# Altium footprint library Diode.PcbLib: 33 footprints (part 2 of 3)
Each footprint in its own frame and in the unit in brackets; x right, y up, seen from the top. Pads: shape width x height; smd on the part's side, far side on the other; paste and mask are expansions set on the pad; w line width, h text height; cw(c..) or ccw(c..) is an arc to the next point about the centre after c.
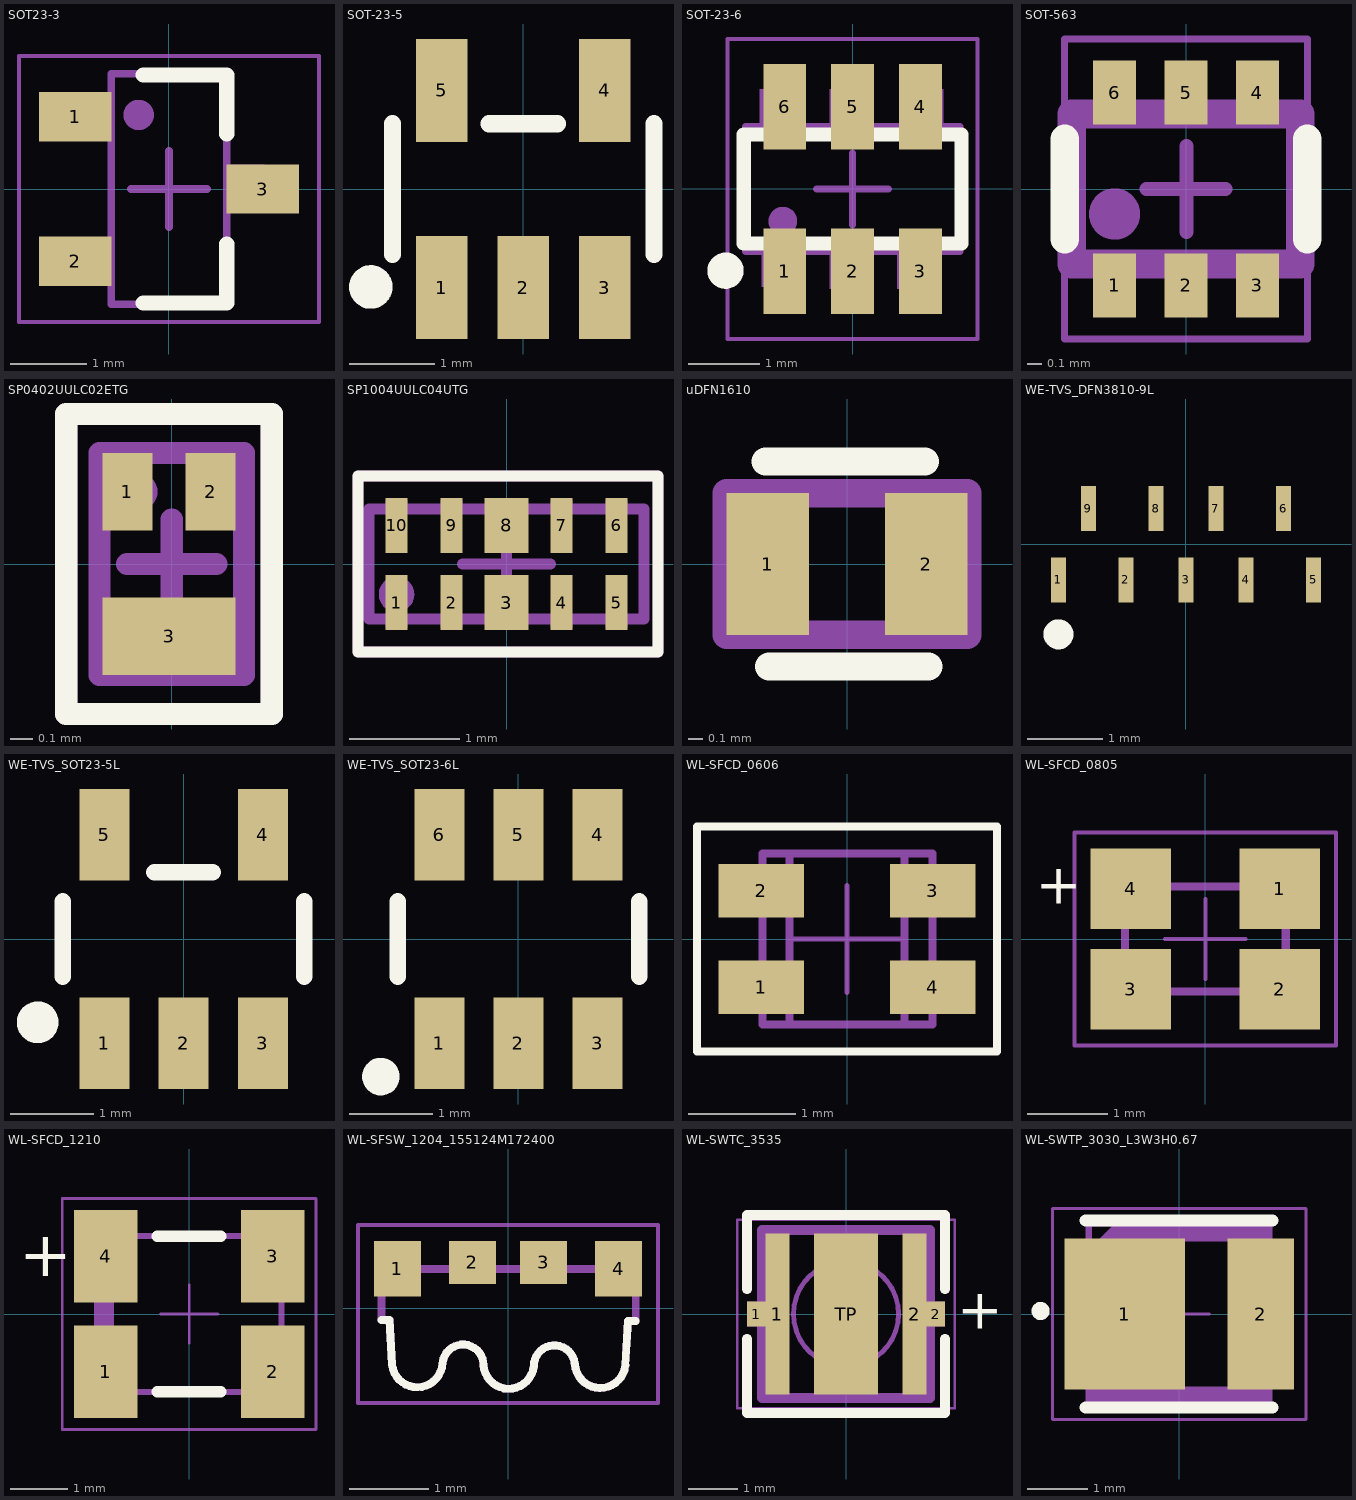
[diagram p1: the footprints below, top view; thin cyan lines are the x and y axes]

## SOT23-3 [mm] "SOT23, 3-Leads, Body 2.92x2.51mm, Pitch 0.95mm, IPC Medium Density"
height 1.12
pads (3):
  rect 0.95x0.65 smd: 1(-1.235,0.95) 2(-1.235,-0.95) 3(1.235,0)
Top Overlay:
  lines w0.2: -0.34,-1.5 0.76,-1.5 0.76,-0.725 ; -0.34,1.5 0.76,1.5 0.76,0.725
Mechanical 13:
  circle w0.3: c-0.4,0.975 r0.05
  rectangle: 0.76,-0.3 1.26,0.325
  rectangle: -1.26,-1.275 -0.76,-0.65
  rectangle: -1.26,0.65 -0.76,1.275
  lines w0.1: -0.76,-1.52 -0.76,1.52 0.76,1.52 0.76,-1.52 -0.76,-1.52
  text ".Designator" at -0.108,1.2 h0.65
Mechanical 15:
  lines w0.05: -1.975,-1.75 -1.975,1.75 1.975,1.75 1.975,-1.75 -1.975,-1.75
  lines w0.1: -0.5,0 0.5,0 ; 0,-0.5 0,0.5
3D body "SOT-23.step": height 1.11, standoff 0.01, extent -1.283,-1.5 1.217,1.5

## SOT-23-5 [mm]
pads (5):
  rect 0.6x1.2 smd: 1(-0.95,-1.15) 2(0,-1.15) 3(0.95,-1.15) 4(0.95,1.15) 5(-0.95,1.15)
Top Overlay:
  circle w0.254: c-1.778,-1.143 r0.127
  lines w0.2: -1.524,-0.762 -1.524,0.762 ; -0.4,0.762 0.4,0.761 ; 1.524,-0.762 1.524,0.762
3D body "SOT-23-5.step": height 1.11, standoff 0.01, extent -1.5,-1.25 1.5,1.25

## SOT-23-6 [mm]
pads (6):
  rect 0.6x1.2 smd: 1(-0.95,-1.15) 2(0,-1.15) 3(0.95,-1.15) 4(0.95,1.15) 5(0,1.15) 6(-0.95,1.15)
Top Overlay:
  circle w0.254: c-1.778,-1.143 r0.127
  lines w0.2: -1.524,-0.762 -1.524,0.762 1.524,0.762 1.524,-0.762 -1.524,-0.762
Mechanical 13:
  circle w0.3: c-0.975,-0.45 r0.05
  region: 1.275,0.9 1.275,1.4 0.65,1.4 0.65,0.9
  region: 0.3,0.9 0.3,1.4 -0.325,1.4 -0.325,0.9
  region: -0.675,0.9 -0.675,1.4 -1.3,1.4 -1.3,0.9
  region: 1.25,-1.4 1.25,-0.9 0.625,-0.9 0.625,-1.4
  region: 0.3,-1.4 0.3,-0.9 -0.325,-0.9 -0.325,-1.4
  region: -0.65,-1.375 -0.65,-0.875 -1.275,-0.875 -1.275,-1.375
  lines w0.1: -1.5,-0.875 -1.5,0.875 1.5,0.875 1.5,-0.875 -1.5,-0.875
  text ".Designator" at -1.999,-0.133 h0.4
Mechanical 15:
  lines w0.05: -1.75,-2.1 -1.75,2.1 1.75,2.1 1.75,-2.1 -1.75,-2.1
  lines w0.1: -0.5,0 0.5,0 ; 0,-0.5 0,0.5
3D body "SOT23-6-2.step": height 1.45, standoff 0, extent -1.45,-1.4 1.45,1.4

## SOT-563 [mm]
pads (6):
  rect 0.3x0.45 smd: 1(-0.5,-0.675) 2(0,-0.675) 3(0.5,-0.675) 4(0.5,0.675) 5(0,0.675) 6(-0.5,0.675)
Top Overlay:
  lines w0.2: -0.85,-0.35 -0.85,0.35 ; 0.85,-0.35 0.85,0.35
Mechanical 13:
  circle w0.2: c-0.5,-0.175 r0.079
  rectangle: -0.625,-0.8 -0.375,-0.55
  rectangle: -0.125,-0.8 0.125,-0.55
  rectangle: 0.375,-0.8 0.625,-0.55
  region: -0.375,0.8 -0.625,0.8 -0.625,0.55 -0.375,0.55
  region: 0.125,0.8 -0.125,0.8 -0.125,0.55 0.125,0.55
  region: 0.625,0.8 0.375,0.8 0.375,0.55 0.625,0.55
  lines w0.2: -0.8,-0.525 0.8,-0.525 0.8,0.525 -0.8,0.525 -0.8,-0.525
  text ".Designator" at -1.25,-0.083 h0.25
Mechanical 15:
  lines w0.05: -0.85,-1.05 0.85,-1.05 0.85,1.05 -0.85,1.05 -0.85,-1.05
  lines w0.1: -0.277,0 0.277,0 ; 0.003,-0.3 0.003,0.3
3D body "SOT-563.stp": height 0.61, standoff 0.01, extent -0.8,-0.8 0.8,0.8

## SP0402UULC02ETG [mm]
pads (3):
  rect 0.225x0.35 smd: 1(-0.2,0.325) 2(0.175,0.325)
  rect 0.6x0.35 smd: 3(-0.012,-0.325)
Top Overlay:
  lines w0.1: -0.475,-0.675 0.45,-0.675 0.45,0.675 -0.475,0.675 -0.475,-0.675
Mechanical 13:
  circle w0.1: c-0.15,0.325 r0.035
  lines w0.1: -0.325,-0.5 0.325,-0.5 0.325,0.5 -0.325,0.5 -0.325,-0.5
  text ".Designator" at 0.083,-1.25 h0.25
Mechanical 15:
  lines w0.1: -0.2,0 0.2,0 ; 0,-0.2 0,0.2 ; -0.475,-0.675 0.45,-0.675 0.45,0.675 -0.475,0.675 -0.475,-0.675
3D body "SP0402UULC02ETG v1.step": height 0.56, standoff 0.01, extent -0.3,-0.5 0.3,0.5

## SP1004UULC04UTG [mm]
pads (10):
  rect 0.2x0.5 smd: 1(-1,-0.35) 2(-0.5,-0.35) 4(0.5,-0.35) 5(1,-0.35) 6(1,0.35) 7(0.5,0.35) 9(-0.5,0.35) 10(-1,0.35)
  rect 0.4x0.5 smd: 3(0,-0.35) 8(0,0.35)
Top Overlay:
  lines w0.1: -1.35,-0.8 1.375,-0.8 1.375,0.8 -1.35,0.8 -1.35,-0.8
Mechanical 13:
  circle w0.1: c-1,-0.275 r0.112
  rectangle: -1.1,-0.575 -0.9,-0.525
  rectangle: -0.6,-0.575 -0.4,-0.525
  rectangle: -0.1,-0.575 0.1,-0.525
  rectangle: 0.4,-0.575 0.6,-0.525
  rectangle: 0.4,-0.575 0.6,-0.525
  rectangle: 0.9,-0.575 1.1,-0.525
  region: 1.1,0.575 0.9,0.575 0.9,0.525 1.1,0.525
  region: 0.6,0.575 0.4,0.575 0.4,0.525 0.6,0.525
  region: 0.1,0.575 -0.1,0.575 -0.1,0.525 0.1,0.525
  region: -0.4,0.575 -0.6,0.575 -0.6,0.525 -0.4,0.525
  region: -0.9,0.575 -1.1,0.575 -1.1,0.525 -0.9,0.525
  lines w0.1: -1.25,-0.5 1.25,-0.5 1.25,0.5 -1.25,0.5 -1.25,-0.5
  text ".Designator" at -1.999,-0.133 h0.4
Mechanical 15:
  lines w0.1: -0.4,0 0.4,0 ; 0,-0.4 0,0.4 ; -1.35,-0.8 1.375,-0.8 1.375,0.8 -1.35,0.8 -1.35,-0.8
3D body "SP1004U-ULC-04UTG v6.step": height 0.62, standoff -0.01, extent -1.25,-0.52 1.25,0.52

## uDFN1610 [mm]
pads (2):
  rect 0.58x1 smd: 1(-0.56,0) 2(0.56,0)
Top Overlay:
  lines w0.2: -0.575,0.725 0.55,0.725 ; -0.55,-0.725 0.575,-0.725
Mechanical 13:
  rectangle: 0.268,-0.5 0.85,0.5
  lines w0.2: -0.85,-0.5 0.85,-0.5 0.85,0.5 -0.85,0.5 -0.85,-0.5
  text ".Designator" at -1.999,0.867 h0.4
3D body "UDFN1610.step": height 0.58, standoff 0.01, extent -0.8,-0.5 0.8,0.5

## WE-TVS_DFN3810-9L [mm] "TVS Diode, package DFN3810-9L"
height 0.55
pads (9):
  rect 0.2x0.6 smd: 1(-1.7,-0.475) 2(-0.8,-0.475) 3(0,-0.475) 4(0.8,-0.475) 5(1.7,-0.475) 6(1.3,0.475) 7(0.4,0.475) 8(-0.4,0.475) 9(-1.3,0.475)
Top Overlay:
  circle w0.2: c-1.7,-1.2 r0.1
3D body "STEP-WE-TVS-DFN3810-9L-rev1.stp": height 0.5, standoff 0, extent -1.9,-0.5 1.9,0.5

## WE-TVS_SOT23-5L [mm] "TVS Diode, package SOT23-5L"
height 1.2
pads (5):
  rect 0.6x1.1 smd: 1(-0.95,-1.25) 2(0,-1.25) 3(0.95,-1.25) 4(0.95,1.25) 5(-0.95,1.25)
Top Overlay:
  circle w0.3: c-1.75,-1 r0.1
  lines w0.2: -1.45,-0.45 -1.45,0.45 ; -0.35,0.8 0.35,0.8 ; 1.45,-0.45 1.45,0.45
3D body "STEP-WE-TVS-HS-SOT23-5L-rev1.stp": height 1.16, standoff 0, extent -1.45,-1.4 1.45,1.4

## WE-TVS_SOT23-6L [mm] "TVS Diode, package SOT23-6L"
height 1.2
pads (6):
  rect 0.6x1.1 smd: 1(-0.95,-1.25) 2(0,-1.25) 3(0.95,-1.25) 4(0.95,1.25) 5(0,1.25) 6(-0.95,1.25)
Top Overlay:
  circle w0.25: c-1.651,-1.651 r0.1
  lines w0.2: -1.45,-0.45 -1.45,0.45 ; 1.45,-0.45 1.45,0.45
3D body "STEP-WE-TVS-SS-SOT23-6L-rev1.stp": height 1.16, standoff 0, extent -1.45,-1.4 1.45,1.4

## WL-SFCD_0606 [mm] "SMD Full-color Chip LED Diffused, body 1.6x1.6mm"
height 0.4
pads (4):
  rect 0.8x0.5 smd: 1(-0.8,-0.45) 2(-0.8,0.45) 3(0.8,0.45) 4(0.8,-0.45)
Top Overlay:
  lines w0.075: -1.4,-1.05 1.4,-1.05 1.4,1.05 -1.4,1.05 -1.4,-1.05
Mechanical 13:
  lines w0.075: -0.538,-0.8 -0.538,0.8 ; 0.537,-0.8 0.537,0.8 ; 0,0.8 -0.788,0.8 -0.788,0.576 cw(c-0.788,0.426) -0.788,0.276 -0.788,-0.276 cw(c-0.788,-0.426) -0.788,-0.576 -0.788,-0.8 0.8,-0.8 0.8,-0.575 cw(c0.8,-0.425) 0.8,-0.275 0.8,0.275 cw(c0.8,0.425) 0.8,0.575 0.8,0.8 0,0.8 ; 0,0.8 0,0.8
  text ".Designator" at 0.133,-1.999 h0.4
Mechanical 15:
  lines w0.05: -0.5,0 0.5,0 ; 0,-0.5 0,0.5 ; -1.4,-1.05 1.4,-1.05 1.4,1.05 -1.4,1.05 -1.4,-1.05
3D body "150066M153000.stp": height 0.4, standoff 0, extent -0.8,-0.8 0.8,0.8

## WL-SFCD_0805 [mm] "SMD Full-color Chip LED Diffused, body 2x1.3mm"
height 0.5
pads (4):
  rect 1x1 smd: 1(0.925,0.625) 2(0.925,-0.625) 3(-0.925,-0.625) 4(-0.925,0.625)
Top Overlay:
  text "+" at -2.105,0.438 h0.5
Top Courtyard:
  lines w0.05: -0.5,0 0.5,0 ; 0,-0.5 0,0.5 ; -1.625,-1.325 1.625,-1.325 1.625,1.325 -1.625,1.325 -1.625,-1.325
Top Designator:
  text ".Designator" at -2.499,-0.167 h0.5
Top Component Outline:
  lines w0.1: -1,-0.65 -1,0.65 1,0.65 1,-0.65 -1,-0.65
3D body "150080M153000.stp": height 0.5, standoff 0, extent -1,-0.65 1,0.65

## WL-SFCD_1210 [mm] "SMD Full-color Chip LED Diffused, body 3.2x2.7mm"
height 1.1
pads (4):
  rect 1.1x1.6 smd: 1(-1.45,-1) 2(1.45,-1) 3(1.45,1) 4(-1.45,1)
Top Overlay:
  lines w0.2: -0.55,-1.35 0.55,-1.35 ; -0.55,1.35 0.55,1.35
  text "+" at -2.95,0.65 h0.8
Top Courtyard:
  lines w0.05: -0.5,0 0.5,0 ; 0,-0.5 0,0.5 ; -2.2,-2 2.2,-2 2.2,2 -2.2,2 -2.2,-2
Top Designator:
  text ".Designator" at -3.499,-0.233 h0.7
Top Component Outline:
  rectangle: -1.6,-1.35 -1.3,1.35
  lines w0.1: -1.6,-1.35 -1.6,1.35 1.6,1.35 1.6,-1.35 -1.6,-1.35
3D body "150121M153000.stp": height 1.08, standoff -0.02, extent -1.6,-1.35 1.6,1.35

## WL-SFSW_1204_155124M172400 [mm] "SMD Full-color Side view Waterclear, body 3.20 x 1.50mm"
height 1
pads (4):
  rect 0.6x0.7 smd: 1(-1.4,0.5) 4(1.4,0.5)
  rect 0.6x0.55 smd: 2(-0.45,0.58) 3(0.45,0.58)
Top Overlay:
  lines w0.1: -1.6,-0.15 -1.5,-0.15 -1.468,-0.709 ; -1.469,-0.711 ccw(c-1.15,-0.68) -0.831,-0.701 ; -0.827,-0.68 cw(c-0.57,-0.72) -0.31,-0.72 ccw(c0.009,-0.699) 0.328,-0.73 cw(c0.588,-0.73) 0.845,-0.691 ; 0.849,-0.711 ccw(c1.168,-0.69) 1.486,-0.721 ; 1.486,-0.719 1.518,-0.16 1.618,-0.16
Mechanical 13:
  lines w0.1: -1.469,-0.711 ccw(c-1.15,-0.68) -0.831,-0.701 ; -1.468,-0.709 -1.5,-0.15 -1.6,-0.15 -1.6,0.5 1.6,0.5 ; -0.827,-0.68 cw(c-0.57,-0.72) -0.31,-0.72 ccw(c0.009,-0.699) 0.328,-0.73 cw(c0.588,-0.73) 0.845,-0.691 ; 0.849,-0.711 ccw(c1.168,-0.69) 1.486,-0.721 ; 1.486,-0.719 1.518,-0.16 1.618,-0.16 1.618,0.49
  text ".Designator" at -2.499,-0.167 h0.5
Mechanical 15:
  lines w0.05: -1.9,-1.2 -1.9,1.055 1.9,1.055 1.9,-1.2 -1.9,-1.2
3D body "155124M172400_STP (rev1).stp": height 1.01, standoff 0.01, extent -1.6,-0.998 1.6,0.5

## WL-SWTC_3535 [mm] "SMD White Top view Ceramic LED, body 3.4x3.4mm"
height 2.1
pads (5):
  rect 0.375x0.5 smd: 1(-1.813,0) 2(1.813,0)
  rect 0.48x3.25 smd: 1(-1.385,0) 2(1.385,0)
  rect 1.3x3.25 smd: TP(0,0)
Top Overlay:
  lines w0.2: -2,-0.5 -2,-2 2,-2 2,-0.5 ; -2,0.5 -2,2 2,2 2,0.5
  text "+" at 2.25,-0.3 h0.8
Mechanical 13:
  circle w0.1: c0,0 r1.061
  region: -1.7,0.25 -2,0.25 -2,-0.25 -1.7,-0.25
  rectangle: 1.7,-0.25 2,0.25
  lines w0.2: -1.7,-1.7 -1.7,1.7 1.7,1.7 1.7,-1.7 -1.7,-1.7
  text ".Designator" at -2.499,-0.167 h0.5
Mechanical 15:
  lines w0.05: -0.5,0 0.5,0 ; 0,-0.5 0,0.5 ; -2.2,-1.9 2.2,-1.9 2.2,1.9 -2.2,1.9 -2.2,-1.9
3D body "150353xS75400.stp": height 2.1, standoff 0, extent -1.7,-1.7 1.7,1.7

## WL-SWTP_3030_L3W3H0.67 [mm] "SMD White Top view PLCC, body 3x3mm"
height 0.67
pads (2):
  rect 2x2.5 smd: 1(-0.9,0)
  rect 1.1x2.5 smd: 2(1.35,0)
Top Overlay:
  circle w0.15: c-2.3,0.05 r0.075
  lines w0.2: -1.55,-1.55 1.55,-1.55 ; -1.55,1.55 1.55,1.55
Mechanical 13:
  rectangle: -1.5,-1.5 1.531,-1.246
  rectangle: 1.233,-1.5 1.5,1.489
  rectangle: -1.5,-1.5 -1.232,1.086
  rectangle: -1.107,1.26 1.5,1.5
  rectangle: 1.154,-1.273 1.258,-1.17
  rectangle: -1.243,-1.256 -1.148,-1.171
  rectangle: 1.136,1.175 1.25,1.289
  rectangle: -1.353,1.068 -1.203,1.196
  rectangle: -1.239,1.191 -1.095,1.325
  lines w0.1: -1.5,1 -1,1.5 ; -1.5,-1.5 1.5,-1.5 1.5,1.5 -1.5,1.5 -1.5,-1.5 ; -1.25,-0.996 ccw(c-0.996,-0.996) -0.996,-1.25 0.996,-1.25 ccw(c0.996,-0.996) 1.25,-0.996 1.25,0.996 ccw(c0.996,0.996) 0.996,1.25 -0.996,1.25 ccw(c-0.996,0.996) -1.25,0.996 -1.25,-0.996
  text ".Designator" at -3.499,-0.233 h0.7
Mechanical 15:
  lines w0.05: -0.5,0 0.5,0 ; 0,-0.5 0,0.5 ; -2.1,-1.75 -2.1,1.75 2.1,1.75 2.1,-1.75 -2.1,-1.75
3D body "1583032xxA.stp": height 0.67, standoff 0, extent -1.6,-1.5 1.6,1.5